# EAGLE library part INA4180 (library bschulz)
INA4180 - Analog Output Current Sense Amplifier Characteristics: Vs: 2.7V ~ 5V Iq: 690μA Common Mode Range: 0V ~ 26V Gain: 20, 50, 100, 200 V/V (A1, A2, A3, A4) Operating Temperature: -40°C to 125°C Digikey: INA4180A2 <https://www.digikey.com/en/products/detail/texas-instruments/INA4180A2IPWR/8676289>
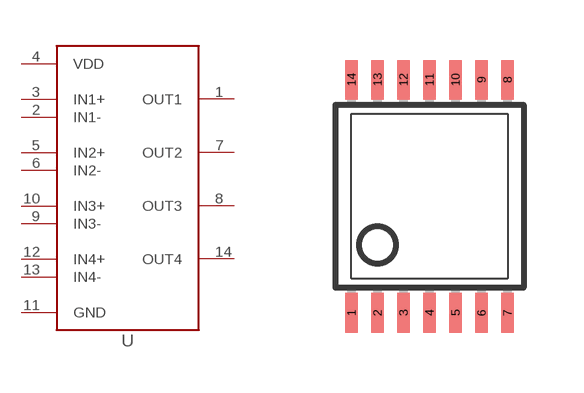
[diagram p155: symbol with the pads of TSSOP14; footprint TSSOP14]

Designator prefix U

## INA4180, INA4180A2 (DIGIKEY: 296-49095-1-ND; DISP: INA4180A2; MF: TI; MPN: INA4180A2IPWR)  [TSSOP14]
1  OUT1  out
2  IN1-  in
3  IN1+  in
4  VDD  pwr
5  IN2+  in
6  IN2-  in
7  OUT2  out
8  OUT3  out
9  IN3-  in
10  IN3+  in
11  GND  pwr
12  IN4+  in
13  IN4-  in
14  OUT4  out

## Footprint TSSOP14 (pad centres in mm)
Thin Shrink Small Outline Plastic 14 0.65mm pitch, 14 pin Datasheet <https://pdfserv.maximintegrated.com/en/ds/MAX3221-MAX3243.pdf>
smd 0.305 x 0.991: 1 -1.95,-2.918; 2 -1.3,-2.918; 3 -0.65,-2.918; 4 0,-2.918; 5 0.65,-2.918; 6 1.3,-2.918; 7 1.95,-2.918; 8 1.95,2.918; 9 1.3,2.918; 10 0.65,2.918; 11 0,2.918; 12 -0.65,2.918; 13 -1.3,2.918; 14 -1.95,2.918